# Altium footprint library IC_RF.PcbLib: 2 footprints
Each footprint in its own frame and in the unit in brackets; x right, y up, seen from the top. Pads: shape width x height; smd on the part's side, far side on the other; paste and mask are expansions set on the pad; w line width, h text height; cw(c..) or ccw(c..) is an arc to the next point about the centre after c.
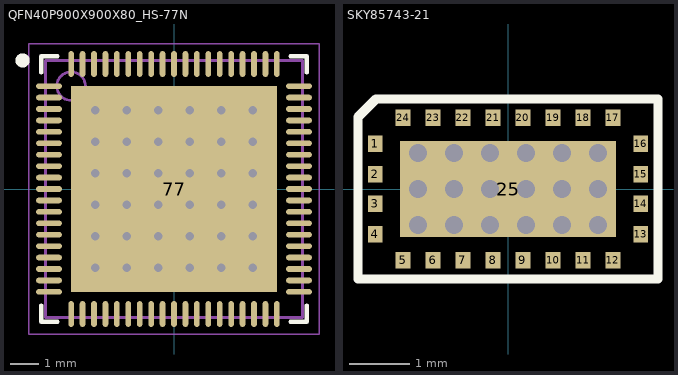
[diagram p0: the footprints below, top view; thin cyan lines are the x and y axes]

## QFN40P900X900X80_HS-77N [mm]
pads (77):
  oval 0.9x0.2 smd: 1(-4.375,3.6) 2(-4.375,3.2) 3(-4.375,2.8) 4(-4.375,2.4) 5(-4.375,2) 6(-4.375,1.6) 7(-4.375,1.2) 8(-4.375,0.8) 9(-4.375,0.4) 10(-4.375,0) 11(-4.375,-0.4) 12(-4.375,-0.8) 13(-4.375,-1.2) 14(-4.375,-1.6) 15(-4.375,-2) 16(-4.375,-2.4) 17(-4.375,-2.8) 18(-4.375,-3.2) 19(-4.375,-3.6) 39(4.375,-3.6) 40(4.375,-3.2) 41(4.375,-2.8) 42(4.375,-2.4) 43(4.375,-2) 44(4.375,-1.6) 45(4.375,-1.2) 46(4.375,-0.8) 47(4.375,-0.4) 48(4.375,0) 49(4.375,0.4) 50(4.375,0.8) 51(4.375,1.2) 52(4.375,1.6) 53(4.375,2) 54(4.375,2.4) 55(4.375,2.8) 56(4.375,3.2) 57(4.375,3.6)
  oval 0.2x0.9 smd: 20(-3.6,-4.375) 21(-3.2,-4.375) 22(-2.8,-4.375) 23(-2.4,-4.375) 24(-2,-4.375) 25(-1.6,-4.375) 26(-1.2,-4.375) 27(-0.8,-4.375) 28(-0.4,-4.375) 29(0,-4.375) 30(0.4,-4.375) 31(0.8,-4.375) 32(1.2,-4.375) 33(1.6,-4.375) 34(2,-4.375) 35(2.4,-4.375) 36(2.8,-4.375) 37(3.2,-4.375) 38(3.6,-4.375) 58(3.6,4.375) 59(3.2,4.375) 60(2.8,4.375) 61(2.4,4.375) 62(2,4.375) 63(1.6,4.375) 64(1.2,4.375) 65(0.8,4.375) 66(0.4,4.375) 67(0,4.375) 68(-0.4,4.375) 69(-0.8,4.375) 70(-1.2,4.375) 71(-1.6,4.375) 72(-2,4.375) 73(-2.4,4.375) 74(-2.8,4.375) 75(-3.2,4.375) 76(-3.6,4.375)
  rect 7.2x7.2 smd: 77(0,0)
via 2.75,-2.75 diameter 0.6 hole 0.3
via 1.65,-2.75 diameter 0.6 hole 0.3
via 0.55,-2.75 diameter 0.6 hole 0.3
via -0.55,-2.75 diameter 0.6 hole 0.3
via -1.65,-2.75 diameter 0.6 hole 0.3
via -2.75,-2.75 diameter 0.6 hole 0.3
via 2.75,-1.65 diameter 0.6 hole 0.3
via 1.65,-1.65 diameter 0.6 hole 0.3
via 0.55,-1.65 diameter 0.6 hole 0.3
via -0.55,-1.65 diameter 0.6 hole 0.3
via -1.65,-1.65 diameter 0.6 hole 0.3
via -2.75,-1.65 diameter 0.6 hole 0.3
via 2.75,-0.55 diameter 0.6 hole 0.3
via 1.65,-0.55 diameter 0.6 hole 0.3
via 0.55,-0.55 diameter 0.6 hole 0.3
via -0.55,-0.55 diameter 0.6 hole 0.3
via -1.65,-0.55 diameter 0.6 hole 0.3
via -2.75,-0.55 diameter 0.6 hole 0.3
via 2.75,0.55 diameter 0.6 hole 0.3
via 1.65,0.55 diameter 0.6 hole 0.3
via 0.55,0.55 diameter 0.6 hole 0.3
via -0.55,0.55 diameter 0.6 hole 0.3
via -1.65,0.55 diameter 0.6 hole 0.3
via -2.75,0.55 diameter 0.6 hole 0.3
via 2.75,1.65 diameter 0.6 hole 0.3
via 1.65,1.65 diameter 0.6 hole 0.3
via 0.55,1.65 diameter 0.6 hole 0.3
via -0.55,1.65 diameter 0.6 hole 0.3
via -1.65,1.65 diameter 0.6 hole 0.3
via -2.75,1.65 diameter 0.6 hole 0.3
via 2.75,2.75 diameter 0.6 hole 0.3
via 1.65,2.75 diameter 0.6 hole 0.3
via 0.55,2.75 diameter 0.6 hole 0.3
via -0.55,2.75 diameter 0.6 hole 0.3
via -1.65,2.75 diameter 0.6 hole 0.3
via -2.75,2.75 diameter 0.6 hole 0.3
Top Overlay:
  circle w0.25: c-5.3,4.5 r0.125
  lines w0.15: -4.65,-4.075 -4.65,-4.65 -4.075,-4.65 ; -4.65,4.075 -4.65,4.65 -4.075,4.65 ; 4.075,-4.65 4.65,-4.65 4.65,-4.075 ; 4.075,4.65 4.65,4.65 4.65,4.075
Mechanical 13:
  circle w0.1: c-3.6,3.6 r0.5
  lines w0.1: -4.5,-4.5 4.5,-4.5 4.5,4.5 -4.5,4.5 -4.5,-4.5
Mechanical 15:
  lines w0.05: -5.075,-5.075 5.075,-5.075 5.075,5.075 -5.075,5.075 -5.075,-5.075
  lines w0.1: -0.5,0 0.5,0 ; 0,-0.5 0,0.5
3D body "QFN40P900X900X80_HS-77N.step": height 0.8, standoff 0, extent -4.55,-4.55 4.55,4.55

## SKY85743-21 [mm]
pads (25):
  rect 0.25x0.275 smd: 1(-2.213,0.75) 2(-2.213,0.25) 3(-2.213,-0.25) 4(-2.213,-0.75) 5(-1.75,-1.188) 6(-1.25,-1.188) 7(-0.75,-1.188) 8(-0.25,-1.188) 9(0.25,-1.188) 10(0.75,-1.188) 11(1.25,-1.188) 12(1.75,-1.188) 13(2.213,-0.75) 14(2.213,-0.25) 15(2.213,0.25) 16(2.213,0.75) 17(1.75,1.188) 18(1.25,1.188) 19(0.75,1.188) 20(0.25,1.188) 21(-0.25,1.188) 22(-0.75,1.188) 23(-1.25,1.188) 24(-1.75,1.188)
  rect 3.6x1.6 smd: 25(0,0)
via 1.5,0.6 diameter 0.4 hole 0.3
via 0.9,0.6 diameter 0.4 hole 0.3
via 0.3,0.6 diameter 0.4 hole 0.3
via -0.3,0.6 diameter 0.4 hole 0.3
via -0.9,0.6 diameter 0.4 hole 0.3
via 1.5,-0.6 diameter 0.4 hole 0.3
via 0.9,-0.6 diameter 0.4 hole 0.3
via 0.3,-0.6 diameter 0.4 hole 0.3
via -0.3,-0.6 diameter 0.4 hole 0.3
via -0.9,-0.6 diameter 0.4 hole 0.3
via -1.5,-0.6 diameter 0.4 hole 0.3
via -1.5,0.6 diameter 0.4 hole 0.3
via -1.5,0 diameter 0.4 hole 0.3
via -0.9,0 diameter 0.4 hole 0.3
via 1.5,0 diameter 0.4 hole 0.3
via 0.9,0 diameter 0.4 hole 0.3
via 0.3,0 diameter 0.4 hole 0.3
via -0.3,0 diameter 0.4 hole 0.3
Top Overlay:
  lines w0.15: -2.5,-1.5 2.5,-1.5 2.5,1.5 -2.2,1.5 -2.5,1.2 -2.5,-1.5
3D body: height 1.2, standoff 0, extent -2.5,-1.5 2.5,1.5